# Altium integrated library reslib.IntLib: 2 symbols
Pins are listed as number, name and electrical type; pins without a type are passive.

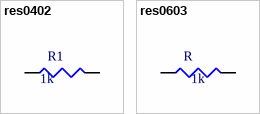
[diagram p0: symbols res0402 to res0603]

## res0402
designator R1, comment R  (value not drawn)
footprint res0402
pins: 1, 2
text: 1k

## res0603
designator R  (value not drawn)
footprint res0603
pins: 1, 2
text: 1k